# EAGLE library part SN65C1168EPWR (library Line_Drivers)
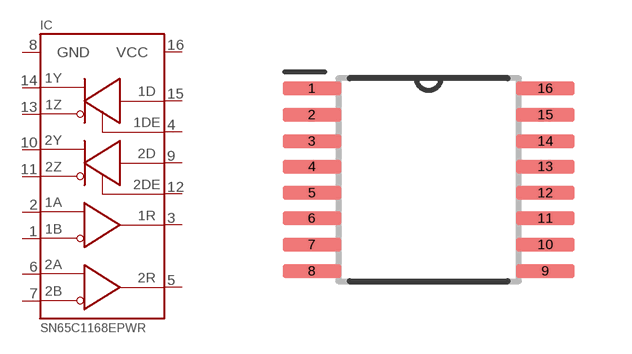
[diagram p4: symbol with the pads of TSSOP16; footprint TSSOP16]

Designator prefix IC

## SN65C1168EPWR  [TSSOP16]
1  1B  in
2  1A  in
3  1R  out
4  1DE  in
5  2R  out
6  2A  in
7  2B  in
8  GND  pwr
9  2D  in
10  2Y  out
11  2Z  out
12  2DE  in
13  1Z  out
14  1Y  out
15  1D  in
16  VCC  pwr

## Footprint TSSOP16 (pad centres in mm)
smd 1.473 x 0.356: 1 -2.921,2.286; 2 -2.921,1.626; 3 -2.921,0.965; 4 -2.921,0.33; 5 -2.921,-0.33; 6 -2.921,-0.965; 7 -2.921,-1.626; 8 -2.921,-2.286; 9 2.921,-2.286; 10 2.921,-1.626; 11 2.921,-0.965; 12 2.921,-0.33; 13 2.921,0.33; 14 2.921,0.965; 15 2.921,1.626; 16 2.921,2.286